# Altium integrated library SS-60300-004.IntLib: 1 symbol
Pins are listed as number, name and electrical type; pins without a type are passive.

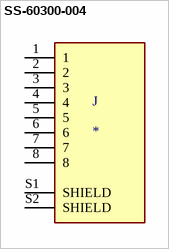
[diagram p0: symbol SS-60300-004]

## SS-60300-004
designator J
Modular Jack | CAT6a | Horizontal (90) | 8P 8C | NF Shielded; MP: SS-60300-004; MF: Stewart Connector; Package: QFN-16 Stewart Connector; Mouser-Purchase-URL: https://snapeda.com/shop?store=Mouser&id=621521; SnapEDA_Link: https://www.snapeda.com/parts/SS-60300-004/Stewart%20Connector/view-part/621521/?ref=snap; Availability: Unavailable; Price: None; Value: *; DigiKey-Purchase-URL: https://snapeda.com/shop?store=DigiKey&id=621521
footprint BEL_SS-60300-004
pins: 1, 2, 3, 4, 5, 6, 7, 8, S1 SHIELD, S2 SHIELD